# EAGLE library part 2450BM14A0002 (library squirrel)
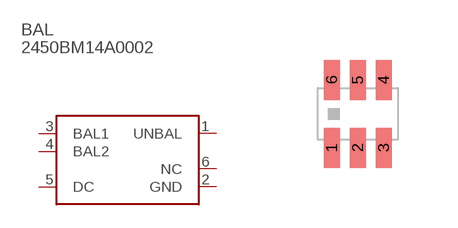
[diagram p13: symbol with the pads of 2450FB15L0001; footprint 2450FB15L0001]

Designator prefix BAL

## 2450BM14A0002  [2450FB15L0001]
1  UNBAL
2  GND
3  BAL1
4  BAL2
5  DC
6  NC

## Footprint 2450FB15L0001 (pad centres in mm)
smd 0.4 x 1: 1 0,0; 2 0.65,0; 3 1.3,0; 4 1.3,1.7; 5 0.65,1.7; 6 0,1.7